# Altium schematic symbol library Schlib1.SchLib: 5 symbols
Pins are listed as number, name and electrical type; pins without a type are passive.

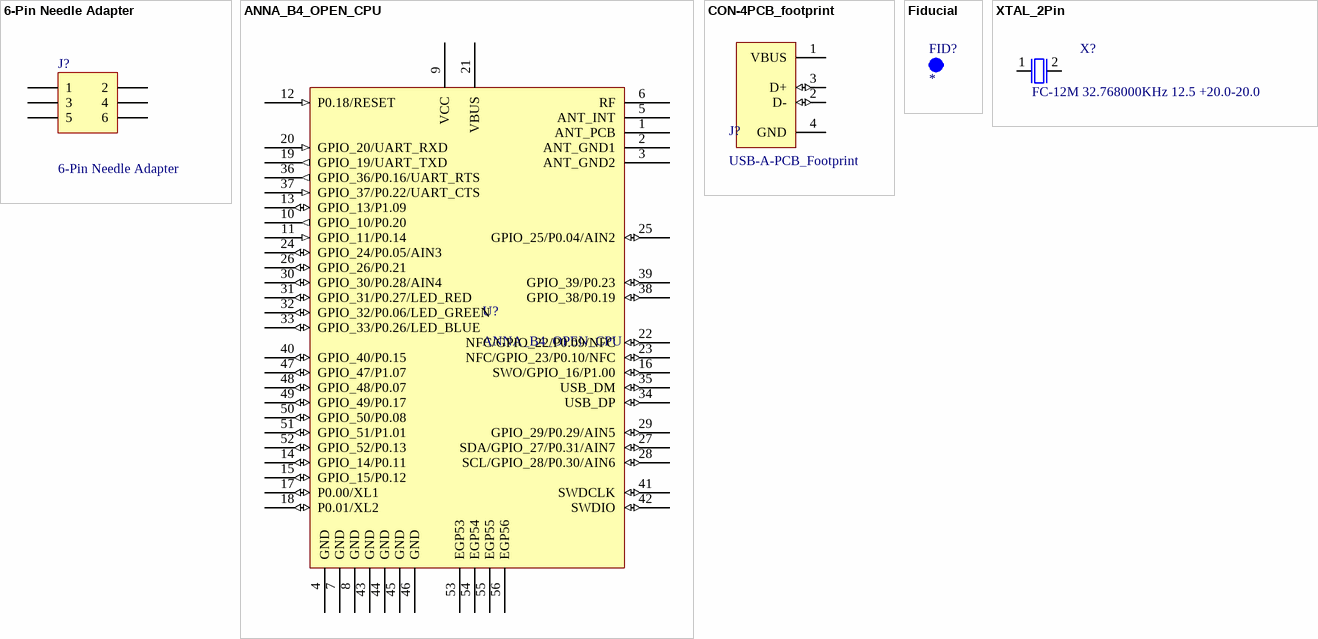
[diagram p0: symbols 6-Pin Needle Adapter to XTAL_2Pin]

## 6-Pin Needle Adapter
designator J?  (no BOM)
CBL PLUG-OF-NAILS 6-PIN; Manufacturer: Segger; Artikkelnr Noca: N.A.; Part Number: 6-Pin Needle Adapter; Manufacturer Part Number: 6-Pin Needle Adapter; Value: 6-Pin Needle Adapter; Pin Count: 6; Footprint Doc: TC2050-IDC-NLFP; ComponentLink1Description: Datasheet; ComponentLink1URL: *; ComponentLink2Description: Supplier link; ComponentLink2URL: *; HelpURL: N.A.; Part number IPS: N.A.; Supplier 2: *; Supplier Part Number 2: *
footprint TC2050-IDC-NLFP
pins: 1, 2, 3, 4, 5, 6

## ANNA_B4_OPEN_CPU
designator U?
Stand-alone Bluethoth Low energy module
footprint SUBLOX_ANNA_LGA56_650X650_MOD
pins: 1 ANT_PCB, 2 ANT_GND1, 3 ANT_GND2, 4 GND, 5 ANT_INT, 6 RF, 7 GND, 8 GND, 9 VCC, 10 GPIO_10/P0.20 (out), 11 GPIO_11/P0.14 (in), 12 P0.18/RESET (in), 13 GPIO_13/P1.09 (io), 14 GPIO_14/P0.11 (io), 15 GPIO_15/P0.12 (io), 16 SWO/GPIO_16/P1.00 (io), 17 P0.00/XL1 (io), 18 P0.01/XL2 (io), 19 GPIO_19/UART_TXD (out), 20 GPIO_20/UART_RXD (in), 21 VBUS, 22 NFC/GPIO_22/P0.09/NFC (io), 23 NFC/GPIO_23/P0.10/NFC (io), 24 GPIO_24/P0.05/AIN3 (io), 25 GPIO_25/P0.04/AIN2 (io), 26 GPIO_26/P0.21 (io), 27 SDA/GPIO_27/P0.31/AIN7 (io), 28 SCL/GPIO_28/P0.30/AIN6 (io), 29 GPIO_29/P0.29/AIN5 (io), 30 GPIO_30/P0.28/AIN4 (io), 31 GPIO_31/P0.27/LED_RED (io), 32 GPIO_32/P0.06/LED_GREEN (io), 33 GPIO_33/P0.26/LED_BLUE (io), 34 USB_DP (io), 35 USB_DM (io), 36 GPIO_36/P0.16/UART_RTS (out), 37 GPIO_37/P0.22/UART_CTS (in), 38 GPIO_38/P0.19 (io), 39 GPIO_39/P0.23 (io), 40 GPIO_40/P0.15 (io), 41 SWDCLK (io), 42 SWDIO (io), 43 GND, 44 GND, 45 GND, 46 GND, 47 GPIO_47/P1.07 (io), 48 GPIO_48/P0.07 (io), 49 GPIO_49/P0.17 (io), 50 GPIO_50/P0.08 (io), 51 GPIO_51/P1.01 (io), 52 GPIO_52/P0.13 (io), 53 EGP53, 54 EGP54, 55 EGP55, 56 EGP56

## CON-4PCB_footprint
designator J?, comment USB-A-PCB_Footprint
PCB_Footprint
footprint USB-A-PCB
footprint MOLEX_48037-0001
pins: 1 VBUS (power), 2 D- (io), 3 D+ (io), 4 GND (power)

## Fiducial
designator FID?
footprint FiducialPCB

## XTAL_2Pin
designator X?  Manufacturer P/N: FC-12M 32.768000KHz 12.5 +20.0-20.0
XTAL 3215 Generic
footprint SNDK_NX3215SA
pins: 1, 2